# EAGLE library part PIC16LF1509 (library MF_IC_Digital)
Manufacturer Part #: PIC16LF1509 Manufacturer: Microchip Technology Description: 8-bit Microcontrollers - MCU 14KB FLASH 512B RAM 18 I/O 10-BIT ADC
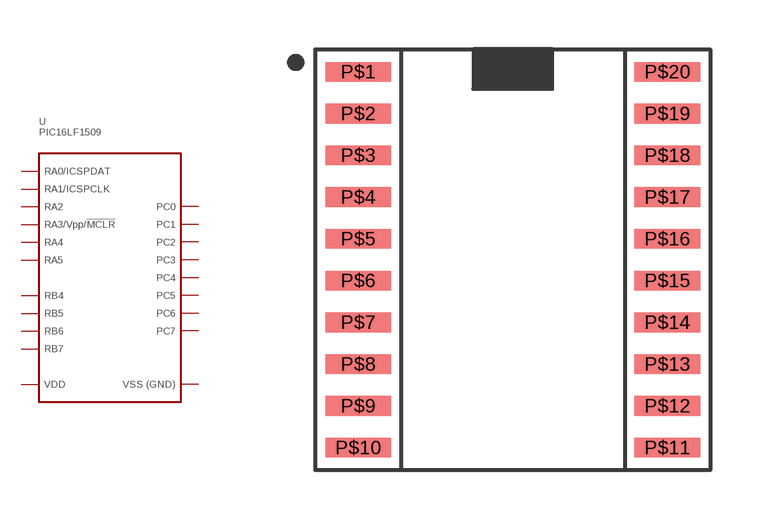
[diagram p4: symbol with the pads of SOIC20W; footprint SOIC20W]

Designator prefix U

## PIC16LF1509T-I/SO (HOUSEPART: NO; MPN: PIC16LF1509T-I/SO; POPULATE: 1; URL: http://ww1.microchip.com/downloads/en/DeviceDoc/40001609D.pdf; VALUE: PIC16LF1509T-I/SO)  [SOIC20W]
P$1  VDD  pwr
P$2  RA5
P$3  RA4
P$4  RA3/VPP/!MCLR!
P$5  RC5
P$6  RC4
P$7  RC3
P$8  RC6
P$9  RC7
P$10  RB7
P$11  RB6
P$12  RB5
P$13  RB4
P$14  RC2
P$15  RC1
P$16  RC0
P$17  RA2
P$18  RA1/ICSPCLK
P$19  RA0/ICSPDAT
P$20  GND  pwr

## Footprint SOIC20W (pad centres in mm)
Description: Standard SOIC-20 Wide Package.
smd 2 x 0.6: P$1 -4.7,5.715; P$2 -4.7,4.445; P$3 -4.7,3.175; P$4 -4.7,1.905; P$5 -4.7,0.635; P$6 -4.7,-0.635; P$7 -4.7,-1.905; P$8 -4.7,-3.175; P$9 -4.7,-4.445; P$10 -4.7,-5.715; P$11 4.7,-5.715; P$12 4.7,-4.445; P$13 4.7,-3.175; P$14 4.7,-1.905; P$15 4.7,-0.635; P$16 4.7,0.635; P$17 4.7,1.905; P$18 4.7,3.175; P$19 4.7,4.445; P$20 4.7,5.715